# EAGLE library part PCIE_RA (library tide_clock)
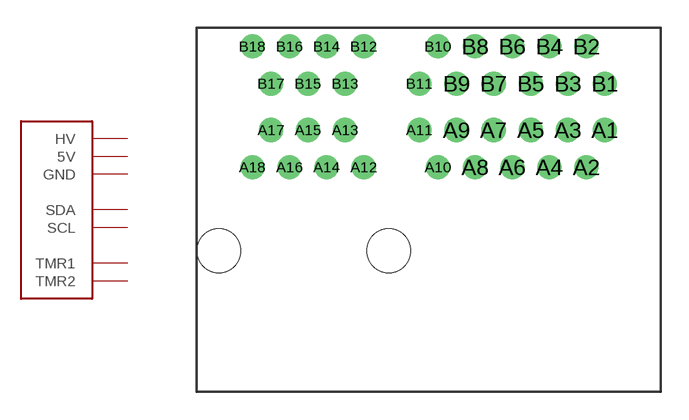
[diagram p5: symbol with the pads of PCIE_RA; footprint PCIE_RA]

Designator prefix JP

## PCIE_RA  [PCIE_RA]
A1  GND  pas
A2  GND  pas
A3  GND  pas
A5  SCL
A6  SDA
A8  TMR1
A9  TMR2
A12  5V  pas
A13  5V  pas
A14  5V  pas
A16  HV  pas
A17  HV  pas
A18  HV  pas
B1  GND  pas
B2  GND  pas
B3  GND  pas
B5  SCL
B6  SDA
B8  TMR1
B9  TMR2
B12  5V  pas
B13  5V  pas
B14  5V  pas
B16  HV  pas
B17  HV  pas
B18  HV  pas

## Footprint PCIE_RA (pad centres in mm)
drill 0.79: A1 -3,14.1; A2 -4,12.1; A3 -5,14.1; A4 -6,12.1; A5 -7,14.1; A6 -8,12.1; A7 -9,14.1; A8 -10,12.1; A9 -11,14.1; A10 -12,12.1; A11 -13,14.1; A12 -16,12.1; A13 -17,14.1; A14 -18,12.1; A15 -19,14.1; A16 -20,12.1; A17 -21,14.1; A18 -22,12.1; B1 -3,16.6; B2 -4,18.6; B3 -5,16.6; B4 -6,18.6; B5 -7,16.6; B6 -8,18.6; B7 -9,16.6; B8 -10,18.6; B9 -11,16.6; B10 -12,18.6; B11 -13,16.6; B12 -16,18.6; B13 -17,16.6; B14 -18,18.6; B15 -19,16.6; B16 -20,18.6; B17 -21,16.6; B18 -22,18.6
hole 2.35 at -14.65,7.6
hole 2.35 at -23.8,7.6